# EAGLE library part 691414720003 (library Wuerth_Elektronik_eiCan_Terminal_Blocks_v2.0)
WR-TBL Serie 4147 - 5.0mm Screwless 45° Entry - 3 mm2 Wires, 3 Pins
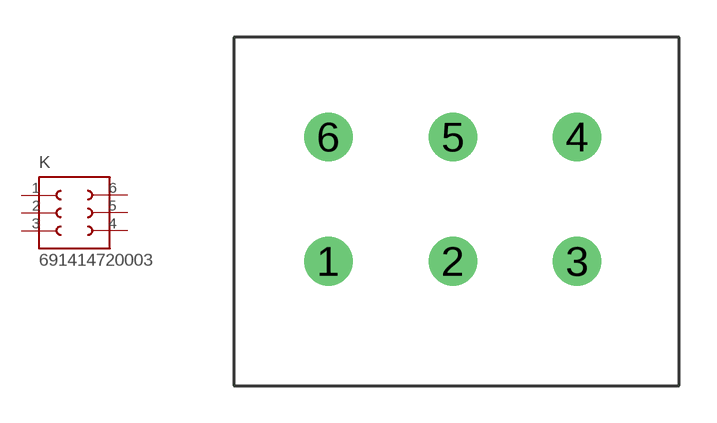
[diagram p254: symbol with the pads of 691414720003; footprint 691414720003]

Designator prefix K

## 691414720003  [691414720003]
1  1  pas
2  2  pas
3  3  pas
4  4  pas
5  5  pas
6  6  pas

## Footprint 691414720003 (pad centres in mm)
WR-TBL Serie 4147 - 5.0mm Screwless 45° Entry - 3 mm2 Wires, 3 Pins
drill 1.3 round: 1 -5,0; 2 0,0; 3 5,0; 4 5,5; 5 0,5; 6 -5,5